# Altium footprint library TO254P480X1000X1900-4P.PcbLib: 1 footprints
Each footprint in its own frame and in the unit in brackets; x right, y up, seen from the top. Pads: shape width x height; smd on the part's side, far side on the other; paste and mask are expansions set on the pad; w line width, h text height; cw(c..) or ccw(c..) is an arc to the next point about the centre after c.
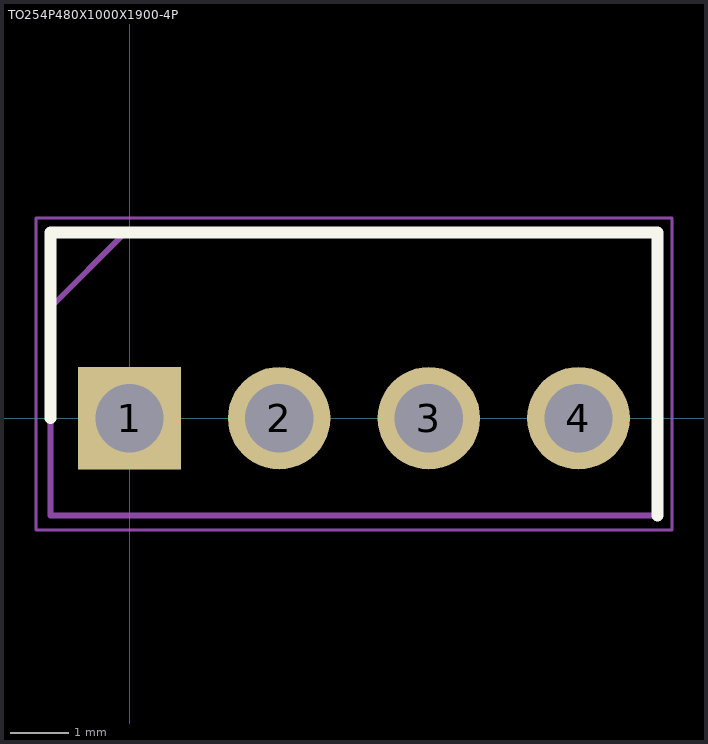
[diagram p0: the footprint, top view; thin cyan lines are the x and y axes]

## TO254P480X1000X1900-4P [mm]
pads (4):
  rect 1.74x1.74 / inner round 1.74 / far side rect 1.74x1.74 hole 1.16: 1(0,0)
  round 1.74 hole 1.16: 2(2.54,0) 3(5.08,0) 4(7.62,0)
Top Overlay:
  lines w0.2: -1.34,0 -1.34,3.15 8.96,3.15 8.96,-1.65
Mechanical 15:
  lines w0.1: -1.34,1.88 -0.07,3.15 ; -1.34,-1.65 8.96,-1.65 8.96,3.15 -1.34,3.15 -1.34,-1.65
Mechanical 20:
  lines w0.05: -1.59,-1.9 9.21,-1.9 9.21,3.4 -1.59,3.4 -1.59,-1.9
3D body "NJM2396F05.stp": height 5.8, standoff -4.65, extent -10,-3.376 10,3.376